# Altium integrated library Linear Technology Power Management Switching Regulator LTC1174-LTC3901.IntLib: 2647 symbols (part 296 of 364)
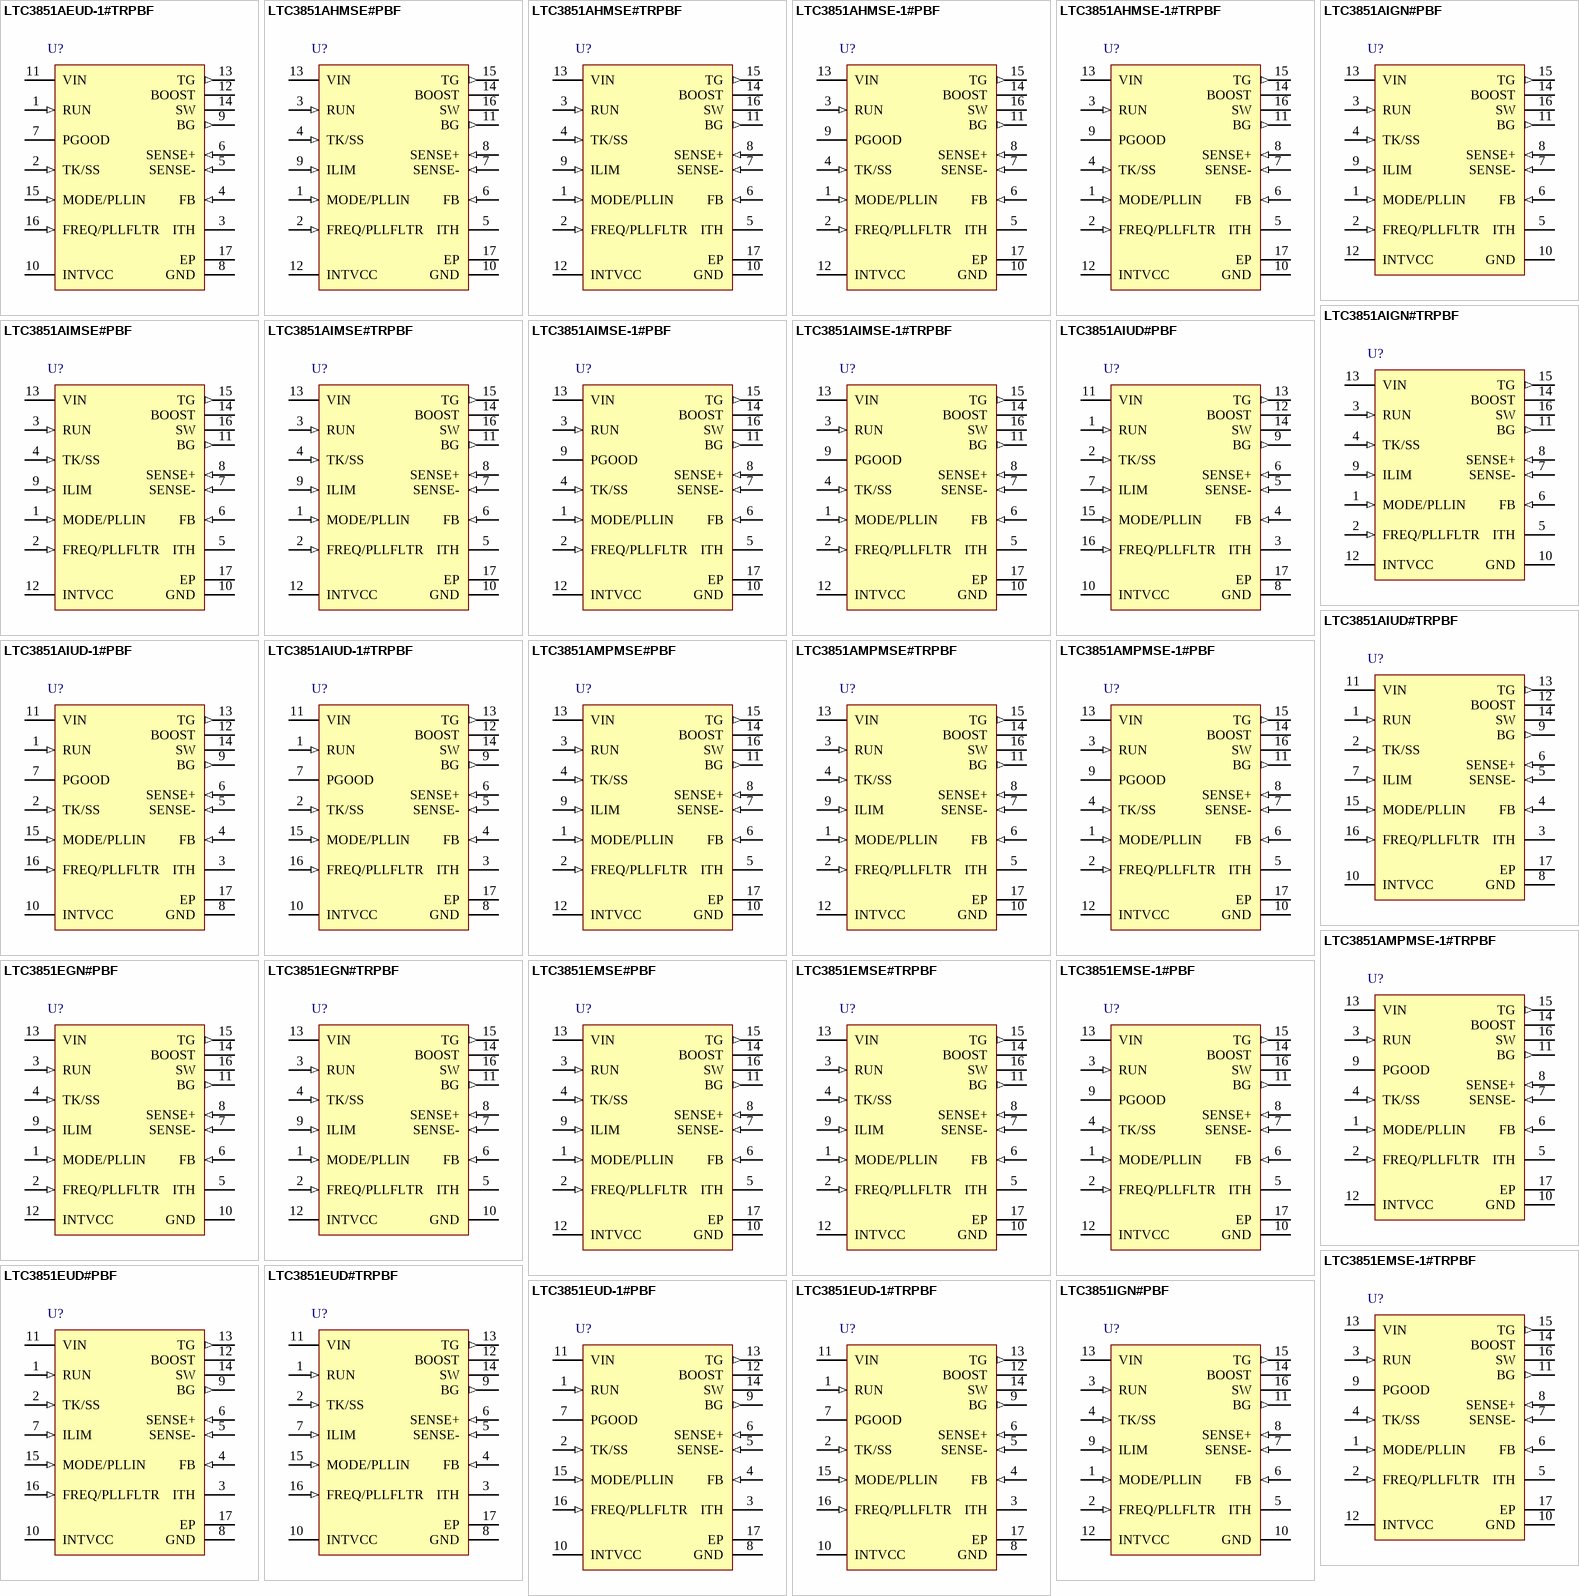
[diagram p270: symbols LTC3851AEUD-1#TRPBF to LTC3851IGN#PBF]

## LTC3851AIGN#TRPBF
designator U?
Synchronous Step-Down Switching Regulator Controller (with Improved PLL), 16-pin SOP (GN-16), -40 to 125 degC, Pb-Free, Tape and Reel; Manufacturer: Linear Technology; PartNumber: LTC3851AIGN#TRPBF; Frequency Sync Range: 250kHz - 750kHz; Number of Outputs: 1; DatasheetVersion: Rev. A; PackageVersion: Rev. B, 03/2012; PackageReference: GN-16; PackageDescription: 16-Pin Plastic SSOP, Body 4.9 x 3.9 mm, Pitch 0.635 mm; Supplier 1: Digi-Key; Supplier Part Number 1: LTC3851AIGN#TRPBF-ND; Packing: Tape and Reel; RoHS: TRUE; Mounting Technology: Surface Mount; ComponentLink1Description: Manufacturer URL; ComponentLink1URL: http://www.linear.com/; ComponentLink2Description: Datasheet; ComponentLink2URL: http://cds.linear.com/docs/en/datasheet/3851afa.pdf; ComponentLink3Description: Package Specification; ComponentLink3URL: http://cds.linear.com/docs/en/packaging/05081641_B_GN16.pdf
footprint LT-GN-16_N (SOP, 16-Leads, Body 5x4mm, Pitch 0.635mm, IPC Medium Density)
footprint LT-GN-16_L (SOP, 16-Leads, Body 5x4mm, Pitch 0.635mm, IPC High Density)
footprint LT-GN-16_M (SOP, 16-Leads, Body 5x4mm, Pitch 0.635mm, IPC Low Density)
pins: 1 MODE/PLLIN (in), 2 FREQ/PLLFLTR (in), 3 RUN (in), 4 TK/SS (in), 5 ITH "Current Control Threshold and Error Amplifier Compensation Point. The current comparator tripping threshold increases with its ITH control voltage.", 6 FB (in) "Error Amplifier Feedback Input. This pin receives the remotely sensed feedback voltage from an external resistive divider across the output.", 7 SENSE- (in) "Current Sense Comparator Inverting Input. The (-) input to the current comparator is connected to the output.", 8 SENSE+ (in) "Current Sense Comparator Noninverting Input. The (+) input to the current comparator is normally connected to the DCR sensing network or current sensing resistor.", 9 ILIM (in) "Current Comparator Sense Voltage Range Input. Tying this pin to GND, FLOAT or INTVCC selects the maximum current sense threshold from three different levels.", 10 GND (power), 11 BG (out) "Bottom Gate Driver Output. This pin drives the gate of the bottom N-channel MOSFET between GND and INTVCC.", 12 INTVCC (power) "Internal 5V Regulator Output. The control circuit is powered from this voltage. Decouple this pin to GND with a minimum 2.2uF low ESR tantalum or ceramic capacitor.", 13 VIN (power) "Main Input Supply. Decouple this pin to GND with a capacitor.", 14 BOOST "Boosted Floating Driver Supply. The (+) terminal of the boost-strap capacitor is connected to this pin. This pin swings from a diode voltage drop below INTVCC up to VIN + INTVCC.", 15 TG (out) "Top Gate Driver Output. This is the output of a floating driver with a voltage swing equal to INTVCC superimposed on the switch node voltage.", 16 SW "Switch Node Connection to the Inductor. Voltage swing at this pin is from a Schottky diode (external) voltage drop below ground to VIN."

## LTC3851AIMSE#PBF
designator U?
Synchronous Step-Down Switching Regulator Controller (with Improved PLL), 16-pin SOP (MSE-16-EDP), -40 to 125 degC, Pb-Free; Manufacturer: Linear Technology; PartNumber: LTC3851AIMSE#PBF; Frequency Sync Range: 250kHz - 750kHz; Number of Outputs: 1; DatasheetVersion: Rev. A; PackageVersion: Rev. F, 05/2013; PackageReference: MSE-16; PackageDescription: 16-Pin Plastic MSOP, Exposed Die Pad, Body 4.039 x 3 mm, Pitch 0.5 mm; Supplier 1: Digi-Key; Supplier Part Number 1: LTC3851AIMSE#PBF-ND; Supplier 2: Newark; Supplier Part Number 2: 13T3940; RoHS: TRUE; Mounting Technology: Surface Mount; ComponentLink1Description: Manufacturer URL; ComponentLink1URL: http://www.linear.com/; ComponentLink2Description: Datasheet; ComponentLink2URL: http://cds.linear.com/docs/en/datasheet/3851afa.pdf; ComponentLink3Description: Package Specification; ComponentLink3URL: http://cds.linear.com/docs/en/packaging/05081667_F_MSE16.pdf
footprint LT-MSE-16-EDP_N (SOP, 16-Leads, Body 4.1x3.1mm, Pitch 0.5mm, Thermal Pad 2.95x1.76mm, IPC Medium Density)
footprint LT-MSE-16-EDP_L (SOP, 16-Leads, Body 4.1x3.1mm, Pitch 0.5mm, Thermal Pad 2.95x1.76mm, IPC High Density)
footprint LT-MSE-16-EDP_M (SOP, 16-Leads, Body 4.1x3.1mm, Pitch 0.5mm, Thermal Pad 2.95x1.76mm, IPC Low Density)
pins: 1 MODE/PLLIN (in), 2 FREQ/PLLFLTR (in), 3 RUN (in), 4 TK/SS (in), 5 ITH "Current Control Threshold and Error Amplifier Compensation Point. The current comparator tripping threshold increases with its ITH control voltage.", 6 FB (in) "Error Amplifier Feedback Input. This pin receives the remotely sensed feedback voltage from an external resistive divider across the output.", 7 SENSE- (in) "Current Sense Comparator Inverting Input. The (-) input to the current comparator is connected to the output.", 8 SENSE+ (in) "Current Sense Comparator Noninverting Input. The (+) input to the current comparator is normally connected to the DCR sensing network or current sensing resistor.", 9 ILIM (in) "Current Comparator Sense Voltage Range Input. Tying this pin to GND, FLOAT or INTVCC selects the maximum current sense threshold from three different levels.", 10 GND (power) "Ground.", 11 BG (out) "Bottom Gate Driver Output. This pin drives the gate of the bottom N-channel MOSFET between GND and INTVCC.", 12 INTVCC (power) "Internal 5V Regulator Output. The control circuit is powered from this voltage. Decouple this pin to GND with a minimum 2.2uF low ESR tantalum or ceramic capacitor.", 13 VIN (power) "Main Input Supply. Decouple this pin to GND with a capacitor.", 14 BOOST "Boosted Floating Driver Supply. The (+) terminal of the boost-strap capacitor is connected to this pin. This pin swings from a diode voltage drop below INTVCC up to VIN + INTVCC.", 15 TG (out) "Top Gate Driver Output. This is the output of a floating driver with a voltage swing equal to INTVCC superimposed on the switch node voltage.", 16 SW "Switch Node Connection to the Inductor. Voltage swing at this pin is from a Schottky diode (external) voltage drop below ground to VIN.", 17 EP (power) "Ground."

## LTC3851AIMSE#TRPBF
designator U?
Synchronous Step-Down Switching Regulator Controller (with Improved PLL), 16-pin SOP (MSE-16-EDP), -40 to 125 degC, Pb-Free, Tape and Reel; Manufacturer: Linear Technology; PartNumber: LTC3851AIMSE#TRPBF; Frequency Sync Range: 250kHz - 750kHz; Number of Outputs: 1; DatasheetVersion: Rev. A; PackageVersion: Rev. F, 05/2013; PackageReference: MSE-16; PackageDescription: 16-Pin Plastic MSOP, Exposed Die Pad, Body 4.039 x 3 mm, Pitch 0.5 mm; Supplier 1: Digi-Key; Supplier Part Number 1: LTC3851AIMSE#TRPBF-ND; Packing: Tape and Reel; RoHS: TRUE; Mounting Technology: Surface Mount; ComponentLink1Description: Manufacturer URL; ComponentLink1URL: http://www.linear.com/; ComponentLink2Description: Datasheet; ComponentLink2URL: http://cds.linear.com/docs/en/datasheet/3851afa.pdf; ComponentLink3Description: Package Specification; ComponentLink3URL: http://cds.linear.com/docs/en/packaging/05081667_F_MSE16.pdf
footprint LT-MSE-16-EDP_N (SOP, 16-Leads, Body 4.1x3.1mm, Pitch 0.5mm, Thermal Pad 2.95x1.76mm, IPC Medium Density)
footprint LT-MSE-16-EDP_L (SOP, 16-Leads, Body 4.1x3.1mm, Pitch 0.5mm, Thermal Pad 2.95x1.76mm, IPC High Density)
footprint LT-MSE-16-EDP_M (SOP, 16-Leads, Body 4.1x3.1mm, Pitch 0.5mm, Thermal Pad 2.95x1.76mm, IPC Low Density)
pins: 1 MODE/PLLIN (in), 2 FREQ/PLLFLTR (in), 3 RUN (in), 4 TK/SS (in), 5 ITH "Current Control Threshold and Error Amplifier Compensation Point. The current comparator tripping threshold increases with its ITH control voltage.", 6 FB (in) "Error Amplifier Feedback Input. This pin receives the remotely sensed feedback voltage from an external resistive divider across the output.", 7 SENSE- (in) "Current Sense Comparator Inverting Input. The (-) input to the current comparator is connected to the output.", 8 SENSE+ (in) "Current Sense Comparator Noninverting Input. The (+) input to the current comparator is normally connected to the DCR sensing network or current sensing resistor.", 9 ILIM (in) "Current Comparator Sense Voltage Range Input. Tying this pin to GND, FLOAT or INTVCC selects the maximum current sense threshold from three different levels.", 10 GND (power) "Ground.", 11 BG (out) "Bottom Gate Driver Output. This pin drives the gate of the bottom N-channel MOSFET between GND and INTVCC.", 12 INTVCC (power) "Internal 5V Regulator Output. The control circuit is powered from this voltage. Decouple this pin to GND with a minimum 2.2uF low ESR tantalum or ceramic capacitor.", 13 VIN (power) "Main Input Supply. Decouple this pin to GND with a capacitor.", 14 BOOST "Boosted Floating Driver Supply. The (+) terminal of the boost-strap capacitor is connected to this pin. This pin swings from a diode voltage drop below INTVCC up to VIN + INTVCC.", 15 TG (out) "Top Gate Driver Output. This is the output of a floating driver with a voltage swing equal to INTVCC superimposed on the switch node voltage.", 16 SW "Switch Node Connection to the Inductor. Voltage swing at this pin is from a Schottky diode (external) voltage drop below ground to VIN.", 17 EP (power) "Ground."

## LTC3851AIMSE-1#PBF
designator U?
Synchronous Step-Down Switching Regulator Controller, 16-pin SOP (MSE-16-EDP), -40 to 125 degC, Pb-Free; Manufacturer: Linear Technology; PartNumber: LTC3851AIMSE-1#PBF; Frequency Sync Range: 250kHz - 750kHz; Number of Outputs: 1; DatasheetVersion: Rev. A; PackageVersion: Rev. F, 05/2013; PackageReference: MSE-16; PackageDescription: 16-Pin Plastic MSOP, Exposed Die Pad, Body 4.039 x 3 mm, Pitch 0.5 mm; Supplier 1: Digi-Key; Supplier Part Number 1: LTC3851AIMSE-1#PBF-ND; Supplier 2: Newark; Supplier Part Number 2: 13T3938; RoHS: TRUE; Mounting Technology: Surface Mount; ComponentLink1Description: Manufacturer URL; ComponentLink1URL: http://www.linear.com/; ComponentLink2Description: Datasheet; ComponentLink2URL: http://cds.linear.com/docs/en/datasheet/3851a1fa.pdf; ComponentLink3Description: Package Specification; ComponentLink3URL: http://cds.linear.com/docs/en/packaging/05081667_F_MSE16.pdf
footprint LT-MSE-16-EDP_N (SOP, 16-Leads, Body 4.1x3.1mm, Pitch 0.5mm, Thermal Pad 2.95x1.76mm, IPC Medium Density)
footprint LT-MSE-16-EDP_L (SOP, 16-Leads, Body 4.1x3.1mm, Pitch 0.5mm, Thermal Pad 2.95x1.76mm, IPC High Density)
footprint LT-MSE-16-EDP_M (SOP, 16-Leads, Body 4.1x3.1mm, Pitch 0.5mm, Thermal Pad 2.95x1.76mm, IPC Low Density)
pins: 1 MODE/PLLIN (in), 2 FREQ/PLLFLTR (in), 3 RUN (in), 4 TK/SS (in), 5 ITH "Current Control Threshold and Error Amplifier Compensation Point. The current comparator tripping threshold increases with its ITH control voltage.", 6 FB (in) "Error Amplifier Feedback Input. This pin receives the remotely sensed feedback voltage from an external resistive divider across the output.", 7 SENSE- (in) "Current Sense Comparator Inverting Input. The (-) input to the current comparator is connected to the output.", 8 SENSE+ (in) "Current Sense Comparator Noninverting Input. The (+) input to the current comparator is normally connected to the DCR sensing network or current sensing resistor.", 9 PGOOD (oc) "Power Good Indicator Output. Opendrain logic out that is pulled to ground when the output voltage exceeds the +/-10% regulation window, after the internal 17us power bad mask timer expires.", 10 GND (power) "Ground.", 11 BG (out) "Bottom Gate Driver Output. This pin drives the gate of the bottom N-channel MOSFET between GND and INTVCC.", 12 INTVCC (power) "Internal 5V Regulator Output. The control circuit is powered from this voltage. Decouple this pin to GND with a minimum 2.2uF low ESR tantalum or ceramic capacitor.", 13 VIN (power) "Main Input Supply. Decouple this pin to GND with a capacitor.", 14 BOOST "Boosted Floating Driver Supply. The (+) terminal of the boost-strap capacitor is connected to this pin. This pin swings from a diode voltage drop below INTVCC up to VIN + INTVCC.", 15 TG (out) "Top Gate Driver Output. This is the output of a floating driver with a voltage swing equal to INTVCC superimposed on the switch node voltage.", 16 SW "Switch Node Connection to the Inductor. Voltage swing at this pin is from a Schottky diode (external) voltage drop below ground to VIN.", 17 EP (power) "Ground."

## LTC3851AIMSE-1#TRPBF
designator U?
Synchronous Step-Down Switching Regulator Controller, 16-pin SOP (MSE-16-EDP), -40 to 125 degC, Pb-Free, Tape and Reel; Manufacturer: Linear Technology; PartNumber: LTC3851AIMSE-1#TRPBF; Frequency Sync Range: 250kHz - 750kHz; Number of Outputs: 1; DatasheetVersion: Rev. A; PackageVersion: Rev. F, 05/2013; PackageReference: MSE-16; PackageDescription: 16-Pin Plastic MSOP, Exposed Die Pad, Body 4.039 x 3 mm, Pitch 0.5 mm; Supplier 1: Digi-Key; Supplier Part Number 1: LTC3851AIMSE-1#TRPBF-ND; Packing: Tape and Reel; RoHS: TRUE; Mounting Technology: Surface Mount; ComponentLink1Description: Manufacturer URL; ComponentLink1URL: http://www.linear.com/; ComponentLink2Description: Datasheet; ComponentLink2URL: http://cds.linear.com/docs/en/datasheet/3851a1fa.pdf; ComponentLink3Description: Package Specification; ComponentLink3URL: http://cds.linear.com/docs/en/packaging/05081667_F_MSE16.pdf
footprint LT-MSE-16-EDP_N (SOP, 16-Leads, Body 4.1x3.1mm, Pitch 0.5mm, Thermal Pad 2.95x1.76mm, IPC Medium Density)
footprint LT-MSE-16-EDP_L (SOP, 16-Leads, Body 4.1x3.1mm, Pitch 0.5mm, Thermal Pad 2.95x1.76mm, IPC High Density)
footprint LT-MSE-16-EDP_M (SOP, 16-Leads, Body 4.1x3.1mm, Pitch 0.5mm, Thermal Pad 2.95x1.76mm, IPC Low Density)
pins: 1 MODE/PLLIN (in), 2 FREQ/PLLFLTR (in), 3 RUN (in), 4 TK/SS (in), 5 ITH "Current Control Threshold and Error Amplifier Compensation Point. The current comparator tripping threshold increases with its ITH control voltage.", 6 FB (in) "Error Amplifier Feedback Input. This pin receives the remotely sensed feedback voltage from an external resistive divider across the output.", 7 SENSE- (in) "Current Sense Comparator Inverting Input. The (-) input to the current comparator is connected to the output.", 8 SENSE+ (in) "Current Sense Comparator Noninverting Input. The (+) input to the current comparator is normally connected to the DCR sensing network or current sensing resistor.", 9 PGOOD (oc) "Power Good Indicator Output. Opendrain logic out that is pulled to ground when the output voltage exceeds the +/-10% regulation window, after the internal 17us power bad mask timer expires.", 10 GND (power) "Ground.", 11 BG (out) "Bottom Gate Driver Output. This pin drives the gate of the bottom N-channel MOSFET between GND and INTVCC.", 12 INTVCC (power) "Internal 5V Regulator Output. The control circuit is powered from this voltage. Decouple this pin to GND with a minimum 2.2uF low ESR tantalum or ceramic capacitor.", 13 VIN (power) "Main Input Supply. Decouple this pin to GND with a capacitor.", 14 BOOST "Boosted Floating Driver Supply. The (+) terminal of the boost-strap capacitor is connected to this pin. This pin swings from a diode voltage drop below INTVCC up to VIN + INTVCC.", 15 TG (out) "Top Gate Driver Output. This is the output of a floating driver with a voltage swing equal to INTVCC superimposed on the switch node voltage.", 16 SW "Switch Node Connection to the Inductor. Voltage swing at this pin is from a Schottky diode (external) voltage drop below ground to VIN.", 17 EP (power) "Ground."

## LTC3851AIUD#PBF
designator U?
Synchronous Step-Down Switching Regulator Controller (with Improved PLL), 16-pin QFN (UD-16), -40 to 125 degC, Pb-Free; Manufacturer: Linear Technology; PartNumber: LTC3851AIUD#PBF; Frequency Sync Range: 250kHz - 750kHz; Number of Outputs: 1; DatasheetVersion: Rev. A; PackageVersion: Jun-10; PackageReference: UD-16; PackageDescription: 16-Pin Plastic QFN, Body 3 x 3 mm, Pitch 0.5 mm; Supplier 1: Digi-Key; Supplier Part Number 1: LTC3851AIUD#PBF-ND; RoHS: TRUE; Mounting Technology: Surface Mount; Code_JEDEC: MO-220; ComponentLink1Description: Manufacturer URL; ComponentLink1URL: http://www.linear.com/; ComponentLink2Description: Datasheet; ComponentLink2URL: http://cds.linear.com/docs/en/datasheet/3851afa.pdf; ComponentLink3Description: Package Specification; ComponentLink3URL: http://cds.linear.com/docs/en/packaging/QFN_16_05-08-1691.pdf
footprint LT-UD-16_N (QFN, 16-Leads, Body 3x3mm, Pitch 0.5mm, Thermal Pad 1.45x1.45mm, IPC Medium Density)
footprint LT-UD-16_L (QFN, 16-Leads, Body 3x3mm, Pitch 0.5mm, Thermal Pad 1.45x1.45mm, IPC High Density)
footprint LT-UD-16_M (QFN, 16-Leads, Body 3x3mm, Pitch 0.5mm, Thermal Pad 1.45x1.45mm, IPC Low Density)
pins: 1 RUN (in), 2 TK/SS (in), 3 ITH "Current Control Threshold and Error Amplifier Compensation Point. The current comparator tripping threshold increases with its ITH control voltage.", 4 FB (in) "Error Amplifier Feedback Input. This pin receives the remotely sensed feedback voltage from an external resistive divider across the output.", 5 SENSE- (in) "Current Sense Comparator Inverting Input. The (-) input to the current comparator is connected to the output.", 6 SENSE+ (in) "Current Sense Comparator Noninverting Input. The (+) input to the current comparator is normally connected to the DCR sensing network or current sensing resistor.", 7 ILIM (in) "Current Comparator Sense Voltage Range Input. Tying this pin to GND, FLOAT or INTVCC selects the maximum current sense threshold from three different levels.", 8 GND (power) "Ground. All small-signal components and compensation components should be Kelvin connected to this ground. The (-) terminal of CVCC and the (-) terminal of CIN should be closely connected to this pin. The exposed pad should (See Datasheet)", 9 BG (out) "Bottom Gate Driver Output. This pin drives the gate of the bottom N-channel MOSFET between GND and INTVCC.", 10 INTVCC (power) "Internal 5V Regulator Output. The control circuit is powered from this voltage. Decouple this pin to GND with a minimum 2.2uF low ESR tantalum or ceramic capacitor.", 11 VIN (power) "Main Input Supply. Decouple this pin to GND with a capacitor.", 12 BOOST "Boosted Floating Driver Supply. The (+) terminal of the boost-strap capacitor is connected to this pin. This pin swings from a diode voltage drop below INTVCC up to VIN + INTVCC.", 13 TG (out) "Top Gate Driver Output. This is the output of a floating driver with a voltage swing equal to INTVCC superimposed on the switch node voltage.", 14 SW "Switch Node Connection to the Inductor. Voltage swing at this pin is from a Schottky diode (external) voltage drop below ground to VIN.", 15 MODE/PLLIN (in), 16 FREQ/PLLFLTR (in), 17 EP (power) "Ground. All small-signal components and compensation components should be Kelvin connected to this ground. The (-) terminal of CVCC and the (-) terminal of CIN should be closely connected to this pin. The exposed pad should (See Datasheet)"

## LTC3851AIUD#TRPBF
designator U?
Synchronous Step-Down Switching Regulator Controller (with Improved PLL), 16-pin QFN (UD-16), -40 to 125 degC, Pb-Free, Tape and Reel; Manufacturer: Linear Technology; PartNumber: LTC3851AIUD#TRPBF; Frequency Sync Range: 250kHz - 750kHz; Number of Outputs: 1; DatasheetVersion: Rev. A; PackageVersion: Jun-10; PackageReference: UD-16; PackageDescription: 16-Pin Plastic QFN, Body 3 x 3 mm, Pitch 0.5 mm; Supplier 1: Digi-Key; Supplier Part Number 1: LTC3851AIUD#TRPBF-ND; Supplier 2: Newark; Supplier Part Number 2: 13T3945; Packing: Tape and Reel; RoHS: TRUE; Mounting Technology: Surface Mount; Code_JEDEC: MO-220; ComponentLink1Description: Manufacturer URL; ComponentLink1URL: http://www.linear.com/; ComponentLink2Description: Datasheet; ComponentLink2URL: http://cds.linear.com/docs/en/datasheet/3851afa.pdf; ComponentLink3Description: Package Specification; ComponentLink3URL: http://cds.linear.com/docs/en/packaging/QFN_16_05-08-1691.pdf
footprint LT-UD-16_N (QFN, 16-Leads, Body 3x3mm, Pitch 0.5mm, Thermal Pad 1.45x1.45mm, IPC Medium Density)
footprint LT-UD-16_L (QFN, 16-Leads, Body 3x3mm, Pitch 0.5mm, Thermal Pad 1.45x1.45mm, IPC High Density)
footprint LT-UD-16_M (QFN, 16-Leads, Body 3x3mm, Pitch 0.5mm, Thermal Pad 1.45x1.45mm, IPC Low Density)
pins: 1 RUN (in), 2 TK/SS (in), 3 ITH "Current Control Threshold and Error Amplifier Compensation Point. The current comparator tripping threshold increases with its ITH control voltage.", 4 FB (in) "Error Amplifier Feedback Input. This pin receives the remotely sensed feedback voltage from an external resistive divider across the output.", 5 SENSE- (in) "Current Sense Comparator Inverting Input. The (-) input to the current comparator is connected to the output.", 6 SENSE+ (in) "Current Sense Comparator Noninverting Input. The (+) input to the current comparator is normally connected to the DCR sensing network or current sensing resistor.", 7 ILIM (in) "Current Comparator Sense Voltage Range Input. Tying this pin to GND, FLOAT or INTVCC selects the maximum current sense threshold from three different levels.", 8 GND (power) "Ground. All small-signal components and compensation components should be Kelvin connected to this ground. The (-) terminal of CVCC and the (-) terminal of CIN should be closely connected to this pin. The exposed pad should (See Datasheet)", 9 BG (out) "Bottom Gate Driver Output. This pin drives the gate of the bottom N-channel MOSFET between GND and INTVCC.", 10 INTVCC (power) "Internal 5V Regulator Output. The control circuit is powered from this voltage. Decouple this pin to GND with a minimum 2.2uF low ESR tantalum or ceramic capacitor.", 11 VIN (power) "Main Input Supply. Decouple this pin to GND with a capacitor.", 12 BOOST "Boosted Floating Driver Supply. The (+) terminal of the boost-strap capacitor is connected to this pin. This pin swings from a diode voltage drop below INTVCC up to VIN + INTVCC.", 13 TG (out) "Top Gate Driver Output. This is the output of a floating driver with a voltage swing equal to INTVCC superimposed on the switch node voltage.", 14 SW "Switch Node Connection to the Inductor. Voltage swing at this pin is from a Schottky diode (external) voltage drop below ground to VIN.", 15 MODE/PLLIN (in), 16 FREQ/PLLFLTR (in), 17 EP (power) "Ground. All small-signal components and compensation components should be Kelvin connected to this ground. The (-) terminal of CVCC and the (-) terminal of CIN should be closely connected to this pin. The exposed pad should (See Datasheet)"

## LTC3851AIUD-1#PBF
designator U?
Synchronous Step-Down Switching Regulator Controller, 16-pin QFN (UD-16), -40 to 125 degC, Pb-Free; Manufacturer: Linear Technology; PartNumber: LTC3851AIUD-1#PBF; Frequency Sync Range: 250kHz - 750kHz; Number of Outputs: 1; DatasheetVersion: Rev. A; PackageVersion: Jun-10; PackageReference: UD-16; PackageDescription: 16-Pin Plastic QFN, Body 3 x 3 mm, Pitch 0.5 mm; Supplier 1: Digi-Key; Supplier Part Number 1: LTC3851AIUD-1#PBF-ND; RoHS: TRUE; Mounting Technology: Surface Mount; Code_JEDEC: MO-220; ComponentLink1Description: Manufacturer URL; ComponentLink1URL: http://www.linear.com/; ComponentLink2Description: Datasheet; ComponentLink2URL: http://cds.linear.com/docs/en/datasheet/3851a1fa.pdf; ComponentLink3Description: Package Specification; ComponentLink3URL: http://cds.linear.com/docs/en/packaging/QFN_16_05-08-1691.pdf
footprint LT-UD-16_N (QFN, 16-Leads, Body 3x3mm, Pitch 0.5mm, Thermal Pad 1.45x1.45mm, IPC Medium Density)
footprint LT-UD-16_L (QFN, 16-Leads, Body 3x3mm, Pitch 0.5mm, Thermal Pad 1.45x1.45mm, IPC High Density)
footprint LT-UD-16_M (QFN, 16-Leads, Body 3x3mm, Pitch 0.5mm, Thermal Pad 1.45x1.45mm, IPC Low Density)
pins: 1 RUN (in), 2 TK/SS (in), 3 ITH "Current Control Threshold and Error Amplifier Compensation Point. The current comparator tripping threshold increases with its ITH control voltage.", 4 FB (in) "Error Amplifier Feedback Input. This pin receives the remotely sensed feedback voltage from an external resistive divider across the output.", 5 SENSE- (in) "Current Sense Comparator Inverting Input. The (-) input to the current comparator is connected to the output.", 6 SENSE+ (in) "Current Sense Comparator Noninverting Input. The (+) input to the current comparator is normally connected to the DCR sensing network or current sensing resistor.", 7 PGOOD (oc) "Power Good Indicator Output. Opendrain logic out that is pulled to ground when the output voltage exceeds the +/-10% regulation window, after the internal 17us power bad mask timer expires.", 8 GND (power), 9 BG (out) "Bottom Gate Driver Output. This pin drives the gate of the bottom N-channel MOSFET between GND and INTVCC.", 10 INTVCC (power) "Internal 5V Regulator Output. The control circuit is powered from this voltage. Decouple this pin to GND with a minimum 2.2uF low ESR tantalum or ceramic capacitor.", 11 VIN (power) "Main Input Supply. Decouple this pin to GND with a capacitor.", 12 BOOST "Boosted Floating Driver Supply. The (+) terminal of the boost-strap capacitor is connected to this pin. This pin swings from a diode voltage drop below INTVCC up to VIN + INTVCC.", 13 TG (out) "Top Gate Driver Output. This is the output of a floating driver with a voltage swing equal to INTVCC superimposed on the switch node voltage.", 14 SW "Switch Node Connection to the Inductor. Voltage swing at this pin is from a Schottky diode (external) voltage drop below ground to VIN.", 15 MODE/PLLIN (in), 16 FREQ/PLLFLTR (in), 17 EP (power)

## LTC3851AIUD-1#TRPBF
designator U?
Synchronous Step-Down Switching Regulator Controller, 16-pin QFN (UD-16), -40 to 125 degC, Pb-Free, Tape and Reel; Manufacturer: Linear Technology; PartNumber: LTC3851AIUD-1#TRPBF; Frequency Sync Range: 250kHz - 750kHz; Number of Outputs: 1; DatasheetVersion: Rev. A; PackageVersion: Jun-10; PackageReference: UD-16; PackageDescription: 16-Pin Plastic QFN, Body 3 x 3 mm, Pitch 0.5 mm; Supplier 1: Digi-Key; Supplier Part Number 1: LTC3851AIUD-1#TRPBF-ND; Packing: Tape and Reel; RoHS: TRUE; Mounting Technology: Surface Mount; Code_JEDEC: MO-220; ComponentLink1Description: Manufacturer URL; ComponentLink1URL: http://www.linear.com/; ComponentLink2Description: Datasheet; ComponentLink2URL: http://cds.linear.com/docs/en/datasheet/3851a1fa.pdf; ComponentLink3Description: Package Specification; ComponentLink3URL: http://cds.linear.com/docs/en/packaging/QFN_16_05-08-1691.pdf
footprint LT-UD-16_N (QFN, 16-Leads, Body 3x3mm, Pitch 0.5mm, Thermal Pad 1.45x1.45mm, IPC Medium Density)
footprint LT-UD-16_L (QFN, 16-Leads, Body 3x3mm, Pitch 0.5mm, Thermal Pad 1.45x1.45mm, IPC High Density)
footprint LT-UD-16_M (QFN, 16-Leads, Body 3x3mm, Pitch 0.5mm, Thermal Pad 1.45x1.45mm, IPC Low Density)
pins: 1 RUN (in), 2 TK/SS (in), 3 ITH "Current Control Threshold and Error Amplifier Compensation Point. The current comparator tripping threshold increases with its ITH control voltage.", 4 FB (in) "Error Amplifier Feedback Input. This pin receives the remotely sensed feedback voltage from an external resistive divider across the output.", 5 SENSE- (in) "Current Sense Comparator Inverting Input. The (-) input to the current comparator is connected to the output.", 6 SENSE+ (in) "Current Sense Comparator Noninverting Input. The (+) input to the current comparator is normally connected to the DCR sensing network or current sensing resistor.", 7 PGOOD (oc) "Power Good Indicator Output. Opendrain logic out that is pulled to ground when the output voltage exceeds the +/-10% regulation window, after the internal 17us power bad mask timer expires.", 8 GND (power), 9 BG (out) "Bottom Gate Driver Output. This pin drives the gate of the bottom N-channel MOSFET between GND and INTVCC.", 10 INTVCC (power) "Internal 5V Regulator Output. The control circuit is powered from this voltage. Decouple this pin to GND with a minimum 2.2uF low ESR tantalum or ceramic capacitor.", 11 VIN (power) "Main Input Supply. Decouple this pin to GND with a capacitor.", 12 BOOST "Boosted Floating Driver Supply. The (+) terminal of the boost-strap capacitor is connected to this pin. This pin swings from a diode voltage drop below INTVCC up to VIN + INTVCC.", 13 TG (out) "Top Gate Driver Output. This is the output of a floating driver with a voltage swing equal to INTVCC superimposed on the switch node voltage.", 14 SW "Switch Node Connection to the Inductor. Voltage swing at this pin is from a Schottky diode (external) voltage drop below ground to VIN.", 15 MODE/PLLIN (in), 16 FREQ/PLLFLTR (in), 17 EP (power)

## LTC3851AMPMSE#PBF
designator U?
Synchronous Step-Down Switching Regulator Controller (with Improved PLL), 16-pin SOP (MSE-16-EDP), -50 to 150 degC, Pb-Free; Manufacturer: Linear Technology; PartNumber: LTC3851AMPMSE#PBF; Frequency Sync Range: 250kHz - 750kHz; Number of Outputs: 1; DatasheetVersion: Rev. A; PackageVersion: Rev. F, 05/2013; PackageReference: MSE-16; PackageDescription: 16-Pin Plastic MSOP, Exposed Die Pad, Body 4.039 x 3 mm, Pitch 0.5 mm; Supplier 1: Digi-Key; Supplier Part Number 1: LTC3851AMPMSE#PBF-ND; RoHS: TRUE; Mounting Technology: Surface Mount; ComponentLink1Description: Manufacturer URL; ComponentLink1URL: http://www.linear.com/; ComponentLink2Description: Datasheet; ComponentLink2URL: http://cds.linear.com/docs/en/datasheet/3851afa.pdf; ComponentLink3Description: Package Specification; ComponentLink3URL: http://cds.linear.com/docs/en/packaging/05081667_F_MSE16.pdf
footprint LT-MSE-16-EDP_N (SOP, 16-Leads, Body 4.1x3.1mm, Pitch 0.5mm, Thermal Pad 2.95x1.76mm, IPC Medium Density)
footprint LT-MSE-16-EDP_L (SOP, 16-Leads, Body 4.1x3.1mm, Pitch 0.5mm, Thermal Pad 2.95x1.76mm, IPC High Density)
footprint LT-MSE-16-EDP_M (SOP, 16-Leads, Body 4.1x3.1mm, Pitch 0.5mm, Thermal Pad 2.95x1.76mm, IPC Low Density)
pins: 1 MODE/PLLIN (in), 2 FREQ/PLLFLTR (in), 3 RUN (in), 4 TK/SS (in), 5 ITH "Current Control Threshold and Error Amplifier Compensation Point. The current comparator tripping threshold increases with its ITH control voltage.", 6 FB (in) "Error Amplifier Feedback Input. This pin receives the remotely sensed feedback voltage from an external resistive divider across the output.", 7 SENSE- (in) "Current Sense Comparator Inverting Input. The (-) input to the current comparator is connected to the output.", 8 SENSE+ (in) "Current Sense Comparator Noninverting Input. The (+) input to the current comparator is normally connected to the DCR sensing network or current sensing resistor.", 9 ILIM (in) "Current Comparator Sense Voltage Range Input. Tying this pin to GND, FLOAT or INTVCC selects the maximum current sense threshold from three different levels.", 10 GND (power) "Ground.", 11 BG (out) "Bottom Gate Driver Output. This pin drives the gate of the bottom N-channel MOSFET between GND and INTVCC.", 12 INTVCC (power) "Internal 5V Regulator Output. The control circuit is powered from this voltage. Decouple this pin to GND with a minimum 2.2uF low ESR tantalum or ceramic capacitor.", 13 VIN (power) "Main Input Supply. Decouple this pin to GND with a capacitor.", 14 BOOST "Boosted Floating Driver Supply. The (+) terminal of the boost-strap capacitor is connected to this pin. This pin swings from a diode voltage drop below INTVCC up to VIN + INTVCC.", 15 TG (out) "Top Gate Driver Output. This is the output of a floating driver with a voltage swing equal to INTVCC superimposed on the switch node voltage.", 16 SW "Switch Node Connection to the Inductor. Voltage swing at this pin is from a Schottky diode (external) voltage drop below ground to VIN.", 17 EP (power) "Ground."

## LTC3851AMPMSE#TRPBF
designator U?
Synchronous Step-Down Switching Regulator Controller (with Improved PLL), 16-pin SOP (MSE-16-EDP), -50 to 150 degC, Pb-Free, Tape and Reel; Manufacturer: Linear Technology; PartNumber: LTC3851AMPMSE#TRPBF; Frequency Sync Range: 250kHz - 750kHz; Number of Outputs: 1; DatasheetVersion: Rev. A; PackageVersion: Rev. F, 05/2013; PackageReference: MSE-16; PackageDescription: 16-Pin Plastic MSOP, Exposed Die Pad, Body 4.039 x 3 mm, Pitch 0.5 mm; Supplier 1: Digi-Key; Supplier Part Number 1: LTC3851AMPMSE#TRPBF-ND; Packing: Tape and Reel; RoHS: TRUE; Mounting Technology: Surface Mount; ComponentLink1Description: Manufacturer URL; ComponentLink1URL: http://www.linear.com/; ComponentLink2Description: Datasheet; ComponentLink2URL: http://cds.linear.com/docs/en/datasheet/3851afa.pdf; ComponentLink3Description: Package Specification; ComponentLink3URL: http://cds.linear.com/docs/en/packaging/05081667_F_MSE16.pdf
footprint LT-MSE-16-EDP_N (SOP, 16-Leads, Body 4.1x3.1mm, Pitch 0.5mm, Thermal Pad 2.95x1.76mm, IPC Medium Density)
footprint LT-MSE-16-EDP_L (SOP, 16-Leads, Body 4.1x3.1mm, Pitch 0.5mm, Thermal Pad 2.95x1.76mm, IPC High Density)
footprint LT-MSE-16-EDP_M (SOP, 16-Leads, Body 4.1x3.1mm, Pitch 0.5mm, Thermal Pad 2.95x1.76mm, IPC Low Density)
pins: 1 MODE/PLLIN (in), 2 FREQ/PLLFLTR (in), 3 RUN (in), 4 TK/SS (in), 5 ITH "Current Control Threshold and Error Amplifier Compensation Point. The current comparator tripping threshold increases with its ITH control voltage.", 6 FB (in) "Error Amplifier Feedback Input. This pin receives the remotely sensed feedback voltage from an external resistive divider across the output.", 7 SENSE- (in) "Current Sense Comparator Inverting Input. The (-) input to the current comparator is connected to the output.", 8 SENSE+ (in) "Current Sense Comparator Noninverting Input. The (+) input to the current comparator is normally connected to the DCR sensing network or current sensing resistor.", 9 ILIM (in) "Current Comparator Sense Voltage Range Input. Tying this pin to GND, FLOAT or INTVCC selects the maximum current sense threshold from three different levels.", 10 GND (power) "Ground.", 11 BG (out) "Bottom Gate Driver Output. This pin drives the gate of the bottom N-channel MOSFET between GND and INTVCC.", 12 INTVCC (power) "Internal 5V Regulator Output. The control circuit is powered from this voltage. Decouple this pin to GND with a minimum 2.2uF low ESR tantalum or ceramic capacitor.", 13 VIN (power) "Main Input Supply. Decouple this pin to GND with a capacitor.", 14 BOOST "Boosted Floating Driver Supply. The (+) terminal of the boost-strap capacitor is connected to this pin. This pin swings from a diode voltage drop below INTVCC up to VIN + INTVCC.", 15 TG (out) "Top Gate Driver Output. This is the output of a floating driver with a voltage swing equal to INTVCC superimposed on the switch node voltage.", 16 SW "Switch Node Connection to the Inductor. Voltage swing at this pin is from a Schottky diode (external) voltage drop below ground to VIN.", 17 EP (power) "Ground."

## LTC3851AMPMSE-1#PBF
designator U?
Synchronous Step-Down Switching Regulator Controller, 16-pin SOP (MSE-16-EDP), -50 to 150 degC, Pb-Free; Manufacturer: Linear Technology; PartNumber: LTC3851AMPMSE-1#PBF; Frequency Sync Range: 250kHz - 750kHz; Number of Outputs: 1; DatasheetVersion: Rev. A; PackageVersion: Rev. F, 05/2013; PackageReference: MSE-16; PackageDescription: 16-Pin Plastic MSOP, Exposed Die Pad, Body 4.039 x 3 mm, Pitch 0.5 mm; Supplier 1: Digi-Key; Supplier Part Number 1: LTC3851AMPMSE-1#PBF-ND; RoHS: TRUE; Mounting Technology: Surface Mount; ComponentLink1Description: Manufacturer URL; ComponentLink1URL: http://www.linear.com/; ComponentLink2Description: Datasheet; ComponentLink2URL: http://cds.linear.com/docs/en/datasheet/3851a1fa.pdf; ComponentLink3Description: Package Specification; ComponentLink3URL: http://cds.linear.com/docs/en/packaging/05081667_F_MSE16.pdf
footprint LT-MSE-16-EDP_N (SOP, 16-Leads, Body 4.1x3.1mm, Pitch 0.5mm, Thermal Pad 2.95x1.76mm, IPC Medium Density)
footprint LT-MSE-16-EDP_L (SOP, 16-Leads, Body 4.1x3.1mm, Pitch 0.5mm, Thermal Pad 2.95x1.76mm, IPC High Density)
footprint LT-MSE-16-EDP_M (SOP, 16-Leads, Body 4.1x3.1mm, Pitch 0.5mm, Thermal Pad 2.95x1.76mm, IPC Low Density)
pins: 1 MODE/PLLIN (in), 2 FREQ/PLLFLTR (in), 3 RUN (in), 4 TK/SS (in), 5 ITH "Current Control Threshold and Error Amplifier Compensation Point. The current comparator tripping threshold increases with its ITH control voltage.", 6 FB (in) "Error Amplifier Feedback Input. This pin receives the remotely sensed feedback voltage from an external resistive divider across the output.", 7 SENSE- (in) "Current Sense Comparator Inverting Input. The (-) input to the current comparator is connected to the output.", 8 SENSE+ (in) "Current Sense Comparator Noninverting Input. The (+) input to the current comparator is normally connected to the DCR sensing network or current sensing resistor.", 9 PGOOD (oc) "Power Good Indicator Output. Opendrain logic out that is pulled to ground when the output voltage exceeds the +/-10% regulation window, after the internal 17us power bad mask timer expires.", 10 GND (power) "Ground.", 11 BG (out) "Bottom Gate Driver Output. This pin drives the gate of the bottom N-channel MOSFET between GND and INTVCC.", 12 INTVCC (power) "Internal 5V Regulator Output. The control circuit is powered from this voltage. Decouple this pin to GND with a minimum 2.2uF low ESR tantalum or ceramic capacitor.", 13 VIN (power) "Main Input Supply. Decouple this pin to GND with a capacitor.", 14 BOOST "Boosted Floating Driver Supply. The (+) terminal of the boost-strap capacitor is connected to this pin. This pin swings from a diode voltage drop below INTVCC up to VIN + INTVCC.", 15 TG (out) "Top Gate Driver Output. This is the output of a floating driver with a voltage swing equal to INTVCC superimposed on the switch node voltage.", 16 SW "Switch Node Connection to the Inductor. Voltage swing at this pin is from a Schottky diode (external) voltage drop below ground to VIN.", 17 EP (power) "Ground."

## LTC3851AMPMSE-1#TRPBF
designator U?
Synchronous Step-Down Switching Regulator Controller, 16-pin SOP (MSE-16-EDP), -50 to 150 degC, Pb-Free, Tape and Reel; Manufacturer: Linear Technology; PartNumber: LTC3851AMPMSE-1#TRPBF; Frequency Sync Range: 250kHz - 750kHz; Number of Outputs: 1; DatasheetVersion: Rev. A; PackageVersion: Rev. F, 05/2013; PackageReference: MSE-16; PackageDescription: 16-Pin Plastic MSOP, Exposed Die Pad, Body 4.039 x 3 mm, Pitch 0.5 mm; Supplier 1: Digi-Key; Supplier Part Number 1: LTC3851AMPMSE-1#TRPBF-ND; Packing: Tape and Reel; RoHS: TRUE; Mounting Technology: Surface Mount; ComponentLink1Description: Manufacturer URL; ComponentLink1URL: http://www.linear.com/; ComponentLink2Description: Datasheet; ComponentLink2URL: http://cds.linear.com/docs/en/datasheet/3851a1fa.pdf; ComponentLink3Description: Package Specification; ComponentLink3URL: http://cds.linear.com/docs/en/packaging/05081667_F_MSE16.pdf
footprint LT-MSE-16-EDP_N (SOP, 16-Leads, Body 4.1x3.1mm, Pitch 0.5mm, Thermal Pad 2.95x1.76mm, IPC Medium Density)
footprint LT-MSE-16-EDP_L (SOP, 16-Leads, Body 4.1x3.1mm, Pitch 0.5mm, Thermal Pad 2.95x1.76mm, IPC High Density)
footprint LT-MSE-16-EDP_M (SOP, 16-Leads, Body 4.1x3.1mm, Pitch 0.5mm, Thermal Pad 2.95x1.76mm, IPC Low Density)
pins: 1 MODE/PLLIN (in), 2 FREQ/PLLFLTR (in), 3 RUN (in), 4 TK/SS (in), 5 ITH "Current Control Threshold and Error Amplifier Compensation Point. The current comparator tripping threshold increases with its ITH control voltage.", 6 FB (in) "Error Amplifier Feedback Input. This pin receives the remotely sensed feedback voltage from an external resistive divider across the output.", 7 SENSE- (in) "Current Sense Comparator Inverting Input. The (-) input to the current comparator is connected to the output.", 8 SENSE+ (in) "Current Sense Comparator Noninverting Input. The (+) input to the current comparator is normally connected to the DCR sensing network or current sensing resistor.", 9 PGOOD (oc) "Power Good Indicator Output. Opendrain logic out that is pulled to ground when the output voltage exceeds the +/-10% regulation window, after the internal 17us power bad mask timer expires.", 10 GND (power) "Ground.", 11 BG (out) "Bottom Gate Driver Output. This pin drives the gate of the bottom N-channel MOSFET between GND and INTVCC.", 12 INTVCC (power) "Internal 5V Regulator Output. The control circuit is powered from this voltage. Decouple this pin to GND with a minimum 2.2uF low ESR tantalum or ceramic capacitor.", 13 VIN (power) "Main Input Supply. Decouple this pin to GND with a capacitor.", 14 BOOST "Boosted Floating Driver Supply. The (+) terminal of the boost-strap capacitor is connected to this pin. This pin swings from a diode voltage drop below INTVCC up to VIN + INTVCC.", 15 TG (out) "Top Gate Driver Output. This is the output of a floating driver with a voltage swing equal to INTVCC superimposed on the switch node voltage.", 16 SW "Switch Node Connection to the Inductor. Voltage swing at this pin is from a Schottky diode (external) voltage drop below ground to VIN.", 17 EP (power) "Ground."

## LTC3851EGN#PBF
designator U?
Synchronous Step-Down Switching Regulator Controller, 16-pin SOP (GN-16), -40 to 85 degC, Pb-Free; Manufacturer: Linear Technology; PartNumber: LTC3851EGN#PBF; Frequency Sync Range: 250kHz - 750kHz; Number of Outputs: 1; DatasheetVersion: Rev. B; PackageVersion: Rev. B, 03/2012; PackageReference: GN-16; PackageDescription: 16-Pin Plastic SSOP, Body 4.9 x 3.9 mm, Pitch 0.635 mm; Supplier 1: Digi-Key; Supplier Part Number 1: LTC3851EGN#PBF-ND; Supplier 2: Farnell; Supplier Part Number 2: 1647749; Supplier 3: Newark; Supplier Part Number 3: 15N5414; RoHS: TRUE; Mounting Technology: Surface Mount; ComponentLink1Description: Manufacturer URL; ComponentLink1URL: http://www.linear.com/; ComponentLink2Description: Datasheet; ComponentLink2URL: http://cds.linear.com/docs/en/datasheet/3851fb.pdf; ComponentLink3Description: Package Specification; ComponentLink3URL: http://cds.linear.com/docs/en/packaging/05081641_B_GN16.pdf
footprint LT-GN-16_N (SOP, 16-Leads, Body 5x4mm, Pitch 0.635mm, IPC Medium Density)
footprint LT-GN-16_L (SOP, 16-Leads, Body 5x4mm, Pitch 0.635mm, IPC High Density)
footprint LT-GN-16_M (SOP, 16-Leads, Body 5x4mm, Pitch 0.635mm, IPC Low Density)
pins: 1 MODE/PLLIN (in), 2 FREQ/PLLFLTR (in), 3 RUN (in), 4 TK/SS (in), 5 ITH "Current Control Threshold and Error Amplifier Compensation Point. The current comparator tripping threshold increases with its ITH control voltage.", 6 FB (in) "Error Amplifier Feedback Input. This pin receives the remotely sensed feedback voltage from an external resistive divider across the output.", 7 SENSE- (in) "Current Sense Comparator Inverting Input. The (-) input to the current comparator is connected to the output.", 8 SENSE+ (in) "Current Sense Comparator Noninverting Input. The (+) input to the current comparator is normally connected to the DCR sensing network or current sensing resistor.", 9 ILIM (in) "Current Comparator Sense Voltage Range Input. Tying this pin to GND, FLOAT or INTVCC selects the maximum current sense threshold from three different levels.", 10 GND (power), 11 BG (out) "Bottom Gate Driver Output. This pin drives the gate of the bottom N-channel MOSFET between GND and INTVCC.", 12 INTVCC (power) "Internal 5V Regulator Output. The control circuit is powered from this voltage. Decouple this pin to GND with a minimum 2.2uF low ESR tantalum or ceramic capacitor.", 13 VIN (power) "Main Input Supply. Decouple this pin to GND with a capacitor.", 14 BOOST "Boosted Floating Driver Supply. The (+) terminal of the boost-strap capacitor is connected to this pin. This pin swings from a diode voltage drop below INTVCC up to VIN + INTVCC.", 15 TG (out) "Top Gate Driver Output. This is the output of a floating driver with a voltage swing equal to INTVCC superimposed on the switch node voltage.", 16 SW "Switch Node Connection to the Inductor. Voltage swing at this pin is from a Schottky diode (external) voltage drop below ground to VIN."

## LTC3851EGN#TRPBF
designator U?
Synchronous Step-Down Switching Regulator Controller, 16-pin SOP (GN-16), -40 to 85 degC, Pb-Free, Tape and Reel; Manufacturer: Linear Technology; PartNumber: LTC3851EGN#TRPBF; Frequency Sync Range: 250kHz - 750kHz; Number of Outputs: 1; DatasheetVersion: Rev. B; PackageVersion: Rev. B, 03/2012; PackageReference: GN-16; PackageDescription: 16-Pin Plastic SSOP, Body 4.9 x 3.9 mm, Pitch 0.635 mm; Supplier 1: Digi-Key; Supplier Part Number 1: LTC3851EGN#TRPBF-ND; Packing: Tape and Reel; RoHS: TRUE; Mounting Technology: Surface Mount; ComponentLink1Description: Manufacturer URL; ComponentLink1URL: http://www.linear.com/; ComponentLink2Description: Datasheet; ComponentLink2URL: http://cds.linear.com/docs/en/datasheet/3851fb.pdf; ComponentLink3Description: Package Specification; ComponentLink3URL: http://cds.linear.com/docs/en/packaging/05081641_B_GN16.pdf
footprint LT-GN-16_N (SOP, 16-Leads, Body 5x4mm, Pitch 0.635mm, IPC Medium Density)
footprint LT-GN-16_L (SOP, 16-Leads, Body 5x4mm, Pitch 0.635mm, IPC High Density)
footprint LT-GN-16_M (SOP, 16-Leads, Body 5x4mm, Pitch 0.635mm, IPC Low Density)
pins: 1 MODE/PLLIN (in), 2 FREQ/PLLFLTR (in), 3 RUN (in), 4 TK/SS (in), 5 ITH "Current Control Threshold and Error Amplifier Compensation Point. The current comparator tripping threshold increases with its ITH control voltage.", 6 FB (in) "Error Amplifier Feedback Input. This pin receives the remotely sensed feedback voltage from an external resistive divider across the output.", 7 SENSE- (in) "Current Sense Comparator Inverting Input. The (-) input to the current comparator is connected to the output.", 8 SENSE+ (in) "Current Sense Comparator Noninverting Input. The (+) input to the current comparator is normally connected to the DCR sensing network or current sensing resistor.", 9 ILIM (in) "Current Comparator Sense Voltage Range Input. Tying this pin to GND, FLOAT or INTVCC selects the maximum current sense threshold from three different levels.", 10 GND (power), 11 BG (out) "Bottom Gate Driver Output. This pin drives the gate of the bottom N-channel MOSFET between GND and INTVCC.", 12 INTVCC (power) "Internal 5V Regulator Output. The control circuit is powered from this voltage. Decouple this pin to GND with a minimum 2.2uF low ESR tantalum or ceramic capacitor.", 13 VIN (power) "Main Input Supply. Decouple this pin to GND with a capacitor.", 14 BOOST "Boosted Floating Driver Supply. The (+) terminal of the boost-strap capacitor is connected to this pin. This pin swings from a diode voltage drop below INTVCC up to VIN + INTVCC.", 15 TG (out) "Top Gate Driver Output. This is the output of a floating driver with a voltage swing equal to INTVCC superimposed on the switch node voltage.", 16 SW "Switch Node Connection to the Inductor. Voltage swing at this pin is from a Schottky diode (external) voltage drop below ground to VIN."

## LTC3851EMSE#PBF
designator U?
Synchronous Step-Down Switching Regulator Controller, 16-pin SOP (MSE-16-EDP), -40 to 85 degC, Pb-Free; Manufacturer: Linear Technology; PartNumber: LTC3851EMSE#PBF; Frequency Sync Range: 250kHz - 750kHz; Number of Outputs: 1; DatasheetVersion: Rev. B; PackageVersion: Rev. F, 05/2013; PackageReference: MSE-16; PackageDescription: 16-Pin Plastic MSOP, Exposed Die Pad, Body 4.039 x 3 mm, Pitch 0.5 mm; Supplier 1: Digi-Key; Supplier Part Number 1: LTC3851EMSE#PBF-ND; Supplier 2: Farnell; Supplier Part Number 2: 1696228; Supplier 3: Newark; Supplier Part Number 3: 44P3980; RoHS: TRUE; Mounting Technology: Surface Mount; ComponentLink1Description: Manufacturer URL; ComponentLink1URL: http://www.linear.com/; ComponentLink2Description: Datasheet; ComponentLink2URL: http://cds.linear.com/docs/en/datasheet/3851fb.pdf; ComponentLink3Description: Package Specification; ComponentLink3URL: http://cds.linear.com/docs/en/packaging/05081667_F_MSE16.pdf
footprint LT-MSE-16-EDP_N (SOP, 16-Leads, Body 4.1x3.1mm, Pitch 0.5mm, Thermal Pad 2.95x1.76mm, IPC Medium Density)
footprint LT-MSE-16-EDP_L (SOP, 16-Leads, Body 4.1x3.1mm, Pitch 0.5mm, Thermal Pad 2.95x1.76mm, IPC High Density)
footprint LT-MSE-16-EDP_M (SOP, 16-Leads, Body 4.1x3.1mm, Pitch 0.5mm, Thermal Pad 2.95x1.76mm, IPC Low Density)
pins: 1 MODE/PLLIN (in), 2 FREQ/PLLFLTR (in), 3 RUN (in), 4 TK/SS (in), 5 ITH "Current Control Threshold and Error Amplifier Compensation Point. The current comparator tripping threshold increases with its ITH control voltage.", 6 FB (in) "Error Amplifier Feedback Input. This pin receives the remotely sensed feedback voltage from an external resistive divider across the output.", 7 SENSE- (in) "Current Sense Comparator Inverting Input. The (-) input to the current comparator is connected to the output.", 8 SENSE+ (in) "Current Sense Comparator Noninverting Input. The (+) input to the current comparator is normally connected to the DCR sensing network or current sensing resistor.", 9 ILIM (in) "Current Comparator Sense Voltage Range Input. Tying this pin to GND, FLOAT or INTVCC selects the maximum current sense threshold from three different levels.", 10 GND (power) "Ground.", 11 BG (out) "Bottom Gate Driver Output. This pin drives the gate of the bottom N-channel MOSFET between GND and INTVCC.", 12 INTVCC (power) "Internal 5V Regulator Output. The control circuit is powered from this voltage. Decouple this pin to GND with a minimum 2.2uF low ESR tantalum or ceramic capacitor.", 13 VIN (power) "Main Input Supply. Decouple this pin to GND with a capacitor.", 14 BOOST "Boosted Floating Driver Supply. The (+) terminal of the boost-strap capacitor is connected to this pin. This pin swings from a diode voltage drop below INTVCC up to VIN + INTVCC.", 15 TG (out) "Top Gate Driver Output. This is the output of a floating driver with a voltage swing equal to INTVCC superimposed on the switch node voltage.", 16 SW "Switch Node Connection to the Inductor. Voltage swing at this pin is from a Schottky diode (external) voltage drop below ground to VIN.", 17 EP (power) "Ground."